# Altium schematic symbol library LED.SchLib: 2 symbols
Pins are listed as number, name and electrical type; pins without a type are passive.

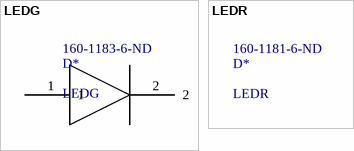
[diagram p0: symbols LEDG to LEDR]

## LEDG
designator D*  Supplier Part Number 1: 160-1183-6-ND
Supplier 1: Digi-Key
pins: 1, 2

## LEDR
designator D*  Supplier Part Number 1: 160-1181-6-ND
Supplier 1: Digi-Key